# Altium footprint library SOP65P640X110-14N.PcbLib: 1 footprints
Each footprint in its own frame and in the unit in brackets; x right, y up, seen from the top. Pads: shape width x height; smd on the part's side, far side on the other; paste and mask are expansions set on the pad; w line width, h text height; cw(c..) or ccw(c..) is an arc to the next point about the centre after c.
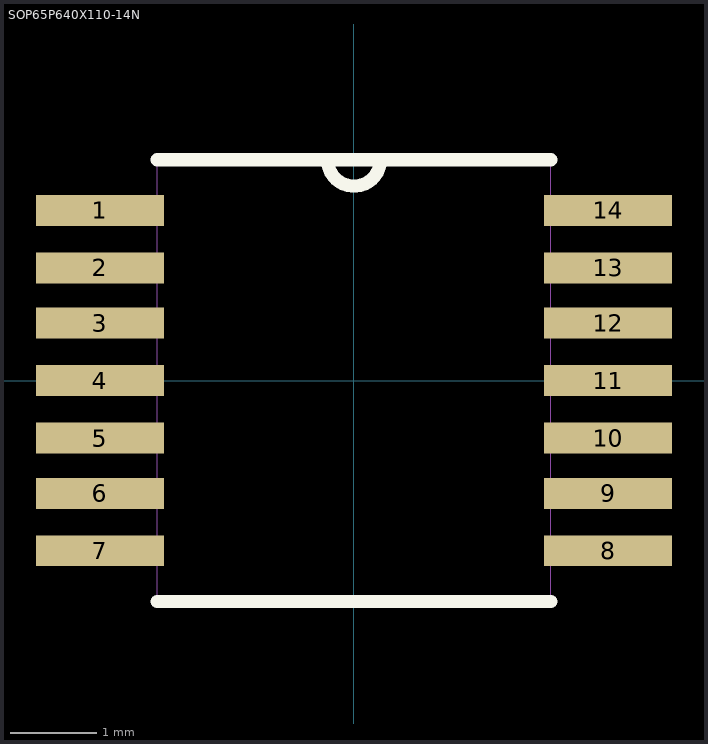
[diagram p0: the footprint, top view; thin cyan lines are the x and y axes]

## SOP65P640X110-14N [mil]
pads (14):
  rect 58x14 smd: 1(-115,77) 2(-115,51) 3(-115,26) 4(-115,0) 5(-115,-26) 6(-115,-51) 7(-115,-77) 8(115,-77) 9(115,-51) 10(115,-26) 11(115,0) 12(115,26) 13(115,51) 14(115,77)
Top Overlay:
  lines w6: -89,-100 89,-100 ; -89,100 -12,100 ; 89,100 12,100 ; -12,100 ccw(c0,100) 12,100 ; -12,100 12,100
Mechanical 13:
  lines w0: -12,100 ccw(c0,100) 12,100 ; -12,100 -89,100 -89,-100 89,-100 89,100 12,100 ; -12,100 12,100 ; -130,-83 -89,-83 -89,-71 -130,-71 -130,-83 ; -130,-57 -89,-57 -89,-45 -130,-45 -130,-57 ; -130,-32 -89,-32 -89,-20 -130,-20 -130,-32 ; -130,-6 -89,-6 -89,6 -130,6 -130,-6 ; -130,20 -89,20 -89,32 -130,32 -130,20 ; -130,45 -89,45 -89,57 -130,57 -130,45 ; -130,71 -89,71 -89,83 -130,83 -130,71 ; 89,-83 130,-83 130,-71 89,-71 89,-83 ; 89,-57 130,-57 130,-45 89,-45 89,-57 ; 89,-32 130,-32 130,-20 89,-20 89,-32 ; 89,-6 130,-6 130,6 89,6 89,-6 ; 89,20 130,20 130,32 89,32 89,20 ; 89,45 130,45 130,57 89,57 89,45 ; 89,71 130,71 130,83 89,83 89,71
3D body "74HC14PW,112.STEP": height 37.91, standoff -5.4, extent -125.98,-98.43 125.98,98.43